# Altium integrated library Linear Technology Power Management Switching Regulator LTC1174-LTC3901.IntLib: 2647 symbols (part 119 of 364)
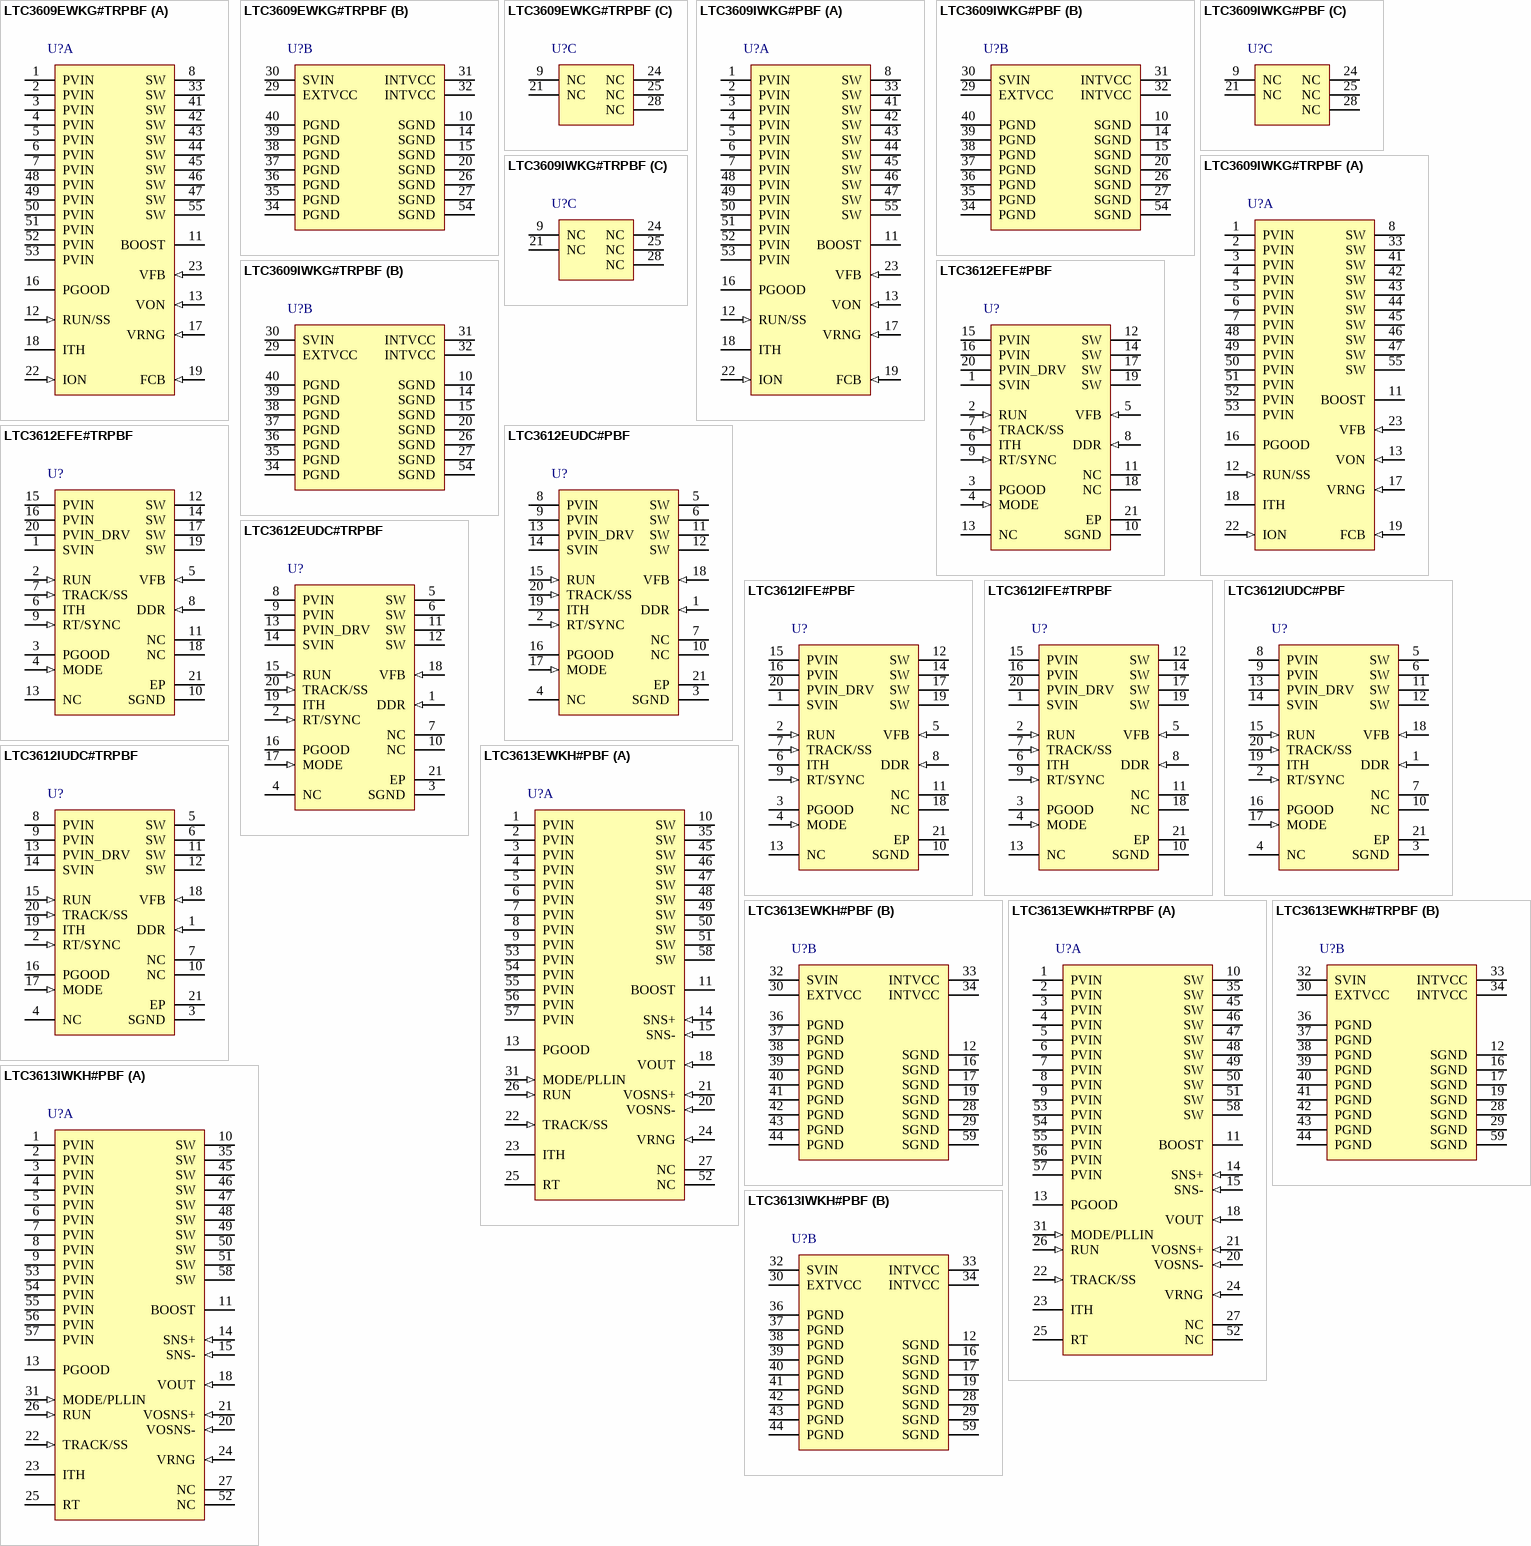
[diagram p176: symbols LTC3609EWKG#TRPBF to LTC3613IWKH#PBF]

## LTC3612EFE#PBF
designator U?
3 A, 4 MHz Monolithic Synchronous Step-Down DC/DC Converter, 20-pin SOP (FE-20-EPV-CB), -40 to 125 degC, Pb-Free; Manufacturer: Linear Technology; PartNumber: LTC3612EFE#PBF; Frequency Adjust Range: Up - 4MHz; Number of Outputs: 1; DatasheetVersion: Rev. A; PackageVersion: Rev. I, 05/2011; PackageReference: FE-20; PackageDescription: 20-Pin Plastic TSSOP, Body 6.5 x 4.4 mm, Pitch 0.65 mm; Supplier 1: Digi-Key; Supplier Part Number 1: LTC3612EFE#PBF-ND; Supplier 2: Farnell; Supplier Part Number 2: 2295101; Supplier 3: Newark; Supplier Part Number 3: 13T8364; RoHS: TRUE; Mounting Technology: Surface Mount; ComponentLink1Description: Manufacturer URL; ComponentLink1URL: http://www.linear.com/; ComponentLink2Description: Datasheet; ComponentLink2URL: http://cds.linear.com/docs/en/datasheet/3612fa.pdf; ComponentLink3Description: Package Specification; ComponentLink3URL: http://cds.linear.com/docs/en/packaging/05081663__J_FE20(CB).pdf
footprint LT-FE-20-EPV-CB_N (SOP, 20-Leads, Body 6.6x4.5mm, Pitch 0.65mm, Thermal Pad 3.86x2.74mm, IPC Medium Density)
footprint LT-FE-20-EPV-CB_L (SOP, 20-Leads, Body 6.6x4.5mm, Pitch 0.65mm, Thermal Pad 3.86x2.74mm, IPC High Density)
footprint LT-FE-20-EPV-CB_M (SOP, 20-Leads, Body 6.6x4.5mm, Pitch 0.65mm, Thermal Pad 3.86x2.74mm, IPC Low Density)
pins: 1 SVIN (power) "Signal Input Supply. This pin powers the internal control circuitry and is monitored by the undervoltage lockout comparator.", 2 RUN (in) "Enable Pin. Forcing this pin to ground shuts down the LTC3612. In shutdown, all functions are disabled and the chip draws <1uA of supply current.", 3 PGOOD (oc) "Power Good. This open-drain output is pulled down to SGND on start-up and while the FB voltage is outside the power good voltage window. If the FB voltage increases and stays inside the power good window for more than 105us (See Datasheet)", 4 MODE (in) "Mode Selection. Tying the MODE pin to SVIN or SGND enables pulse-skipping mode or Burst Mode operation (with an internal Burst Mode clamp), respectively. If this pin is held at slightly higher than half of SVIN, forced (See Datasheet)", 5 VFB (in) "Voltage Feedback Input Pin. Senses the feedback voltage from the external resistive divider across the output.", 6 ITH "Error Amplifier Compensation. The current comparator’s threshold increases with this control voltage. Tying this pin to SVIN enables internal compensation and AVP mode.", 7 TRACK/SS (in) "Track/External Soft-Start/External Reference. Start-up behavior is programmable with the TRACK/SS pin: 1. Tying this pin to SVIN selects the internal soft-start circuit. 2. External soft-start timing can be programmed with a (See Datasheet)", 8 DDR (in) "DDR Mode Pin. Tying the DDR pin to SVIN selects DDR mode and TRACK/SS can be used as an external reference input. If DDR is tied to SGND, the internal 0.6V reference will be used.", 9 RT/SYNC (in) "Oscillator Frequency. This pin provides three ways of setting the constant switching frequency: 1. Connecting a resistor from RT/SYNC to ground will set the switching frequency based on the resistor value. 2. Driving the (See Datasheet)", 10 SGND (power) "Signal Ground. All small-signal and compensation components should connect to this ground, which in turn should connect to PGND at a single point.", 11 NC "Can be connected to ground or left open.", 12 SW (power) "Switch Node. Connection to the inductor. This pin connects to the drains of the internal synchronous power MOSFET switches.", 13 NC "Can be connected to ground or left open.", 14 SW (power) "Switch Node. Connection to the inductor. This pin connects to the drains of the internal synchronous power MOSFET switches.", 15 PVIN (power) "Power Input Supply. PVIN connects to the source of the internal P-channel power MOSFET. This pin is independent of SVIN and may be connected to the same voltage or to a lower voltage supply.", 16 PVIN (power) "Power Input Supply. PVIN connects to the source of the internal P-channel power MOSFET. This pin is independent of SVIN and may be connected to the same voltage or to a lower voltage supply.", 17 SW (power) "Switch Node. Connection to the inductor. This pin connects to the drains of the internal synchronous power MOSFET switches.", 18 NC "Can be connected to ground or left open.", 19 SW (power) "Switch Node. Connection to the inductor. This pin connects to the drains of the internal synchronous power MOSFET switches.", 20 PVIN_DRV (power) "Internal Gate Driver Input Supply. This pin must be connected to PVIN.", 21 EP (power) "Power Ground. The exposed pad connects to the source of the internal N-channel power MOSFET. This pin should be connected close to the (-) terminal of CIN and COUT and soldered to PCB ground for rated thermal performance."

## LTC3612EFE#TRPBF
designator U?
3 A, 4 MHz Monolithic Synchronous Step-Down DC/DC Converter, 20-pin SOP (FE-20-EPV-CB), -40 to 125 degC, Pb-Free, Tape and Reel; Manufacturer: Linear Technology; PartNumber: LTC3612EFE#TRPBF; Frequency Adjust Range: Up - 4MHz; Number of Outputs: 1; DatasheetVersion: Rev. A; PackageVersion: Rev. I, 05/2011; PackageReference: FE-20; PackageDescription: 20-Pin Plastic TSSOP, Body 6.5 x 4.4 mm, Pitch 0.65 mm; Supplier 1: Digi-Key; Supplier Part Number 1: LTC3612EFE#TRPBF-ND; Packing: Tape and Reel; RoHS: TRUE; Mounting Technology: Surface Mount; ComponentLink1Description: Manufacturer URL; ComponentLink1URL: http://www.linear.com/; ComponentLink2Description: Datasheet; ComponentLink2URL: http://cds.linear.com/docs/en/datasheet/3612fa.pdf; ComponentLink3Description: Package Specification; ComponentLink3URL: http://cds.linear.com/docs/en/packaging/05081663__J_FE20(CB).pdf
footprint LT-FE-20-EPV-CB_N (SOP, 20-Leads, Body 6.6x4.5mm, Pitch 0.65mm, Thermal Pad 3.86x2.74mm, IPC Medium Density)
footprint LT-FE-20-EPV-CB_L (SOP, 20-Leads, Body 6.6x4.5mm, Pitch 0.65mm, Thermal Pad 3.86x2.74mm, IPC High Density)
footprint LT-FE-20-EPV-CB_M (SOP, 20-Leads, Body 6.6x4.5mm, Pitch 0.65mm, Thermal Pad 3.86x2.74mm, IPC Low Density)
pins: 1 SVIN (power) "Signal Input Supply. This pin powers the internal control circuitry and is monitored by the undervoltage lockout comparator.", 2 RUN (in) "Enable Pin. Forcing this pin to ground shuts down the LTC3612. In shutdown, all functions are disabled and the chip draws <1uA of supply current.", 3 PGOOD (oc) "Power Good. This open-drain output is pulled down to SGND on start-up and while the FB voltage is outside the power good voltage window. If the FB voltage increases and stays inside the power good window for more than 105us (See Datasheet)", 4 MODE (in) "Mode Selection. Tying the MODE pin to SVIN or SGND enables pulse-skipping mode or Burst Mode operation (with an internal Burst Mode clamp), respectively. If this pin is held at slightly higher than half of SVIN, forced (See Datasheet)", 5 VFB (in) "Voltage Feedback Input Pin. Senses the feedback voltage from the external resistive divider across the output.", 6 ITH "Error Amplifier Compensation. The current comparator’s threshold increases with this control voltage. Tying this pin to SVIN enables internal compensation and AVP mode.", 7 TRACK/SS (in) "Track/External Soft-Start/External Reference. Start-up behavior is programmable with the TRACK/SS pin: 1. Tying this pin to SVIN selects the internal soft-start circuit. 2. External soft-start timing can be programmed with a (See Datasheet)", 8 DDR (in) "DDR Mode Pin. Tying the DDR pin to SVIN selects DDR mode and TRACK/SS can be used as an external reference input. If DDR is tied to SGND, the internal 0.6V reference will be used.", 9 RT/SYNC (in) "Oscillator Frequency. This pin provides three ways of setting the constant switching frequency: 1. Connecting a resistor from RT/SYNC to ground will set the switching frequency based on the resistor value. 2. Driving the (See Datasheet)", 10 SGND (power) "Signal Ground. All small-signal and compensation components should connect to this ground, which in turn should connect to PGND at a single point.", 11 NC "Can be connected to ground or left open.", 12 SW (power) "Switch Node. Connection to the inductor. This pin connects to the drains of the internal synchronous power MOSFET switches.", 13 NC "Can be connected to ground or left open.", 14 SW (power) "Switch Node. Connection to the inductor. This pin connects to the drains of the internal synchronous power MOSFET switches.", 15 PVIN (power) "Power Input Supply. PVIN connects to the source of the internal P-channel power MOSFET. This pin is independent of SVIN and may be connected to the same voltage or to a lower voltage supply.", 16 PVIN (power) "Power Input Supply. PVIN connects to the source of the internal P-channel power MOSFET. This pin is independent of SVIN and may be connected to the same voltage or to a lower voltage supply.", 17 SW (power) "Switch Node. Connection to the inductor. This pin connects to the drains of the internal synchronous power MOSFET switches.", 18 NC "Can be connected to ground or left open.", 19 SW (power) "Switch Node. Connection to the inductor. This pin connects to the drains of the internal synchronous power MOSFET switches.", 20 PVIN_DRV (power) "Internal Gate Driver Input Supply. This pin must be connected to PVIN.", 21 EP (power) "Power Ground. The exposed pad connects to the source of the internal N-channel power MOSFET. This pin should be connected close to the (-) terminal of CIN and COUT and soldered to PCB ground for rated thermal performance."

## LTC3612EUDC#PBF
designator U?
3 A, 4 MHz Monolithic Synchronous Step-Down DC/DC Converter, 20-pin QFN (UDC-20), -40 to 125 degC, Pb-Free; Manufacturer: Linear Technology; PartNumber: LTC3612EUDC#PBF; Frequency Adjust Range: Up - 4MHz; Number of Outputs: 1; DatasheetVersion: Rev. A; PackageVersion: Rev. Ø, 06/2010; PackageReference: UDC20; PackageDescription: 20-Pin Plastic QFN, Body 3 x 4 mm, Pitch 0.5 mm; Supplier 1: Digi-Key; Supplier Part Number 1: LTC3612EUDC#PBF-ND; Supplier 2: Newark; Supplier Part Number 2: 13T8366; RoHS: TRUE; Mounting Technology: Surface Mount; ComponentLink1Description: Manufacturer URL; ComponentLink1URL: http://www.linear.com/; ComponentLink2Description: Datasheet; ComponentLink2URL: http://cds.linear.com/docs/en/datasheet/3612fa.pdf; ComponentLink3Description: Package Specification; ComponentLink3URL: http://cds.linear.com/docs/en/packaging/QFN_20_05-08-1742.pdf
footprint LT-UDC-20_N (QFN, 20-Leads, Body 4.1x3.1mm, Pitch 0.5mm, Thermal Pad 2.65x1.65mm, IPC Medium Density)
footprint LT-UDC-20_L (QFN, 20-Leads, Body 4.1x3.1mm, Pitch 0.5mm, Thermal Pad 2.65x1.65mm, IPC High Density)
footprint LT-UDC-20_M (QFN, 20-Leads, Body 4.1x3.1mm, Pitch 0.5mm, Thermal Pad 2.65x1.65mm, IPC Low Density)
pins: 1 DDR (in) "DDR Mode Pin. Tying the DDR pin to SVIN selects DDR mode and TRACK/SS can be used as an external reference input. If DDR is tied to SGND, the internal 0.6V reference will be used.", 2 RT/SYNC (in) "Oscillator Frequency. This pin provides three ways of setting the constant switching frequency: 1. Connecting a resistor from RT/SYNC to ground will set the switching frequency based on the resistor value. 2. Driving the (See Datasheet)", 3 SGND (power) "Signal Ground. All small-signal and compensation components should connect to this ground, which in turn should connect to PGND at a single point.", 4 NC "Can be connected to ground or left open.", 5 SW (power) "Switch Node. Connection to the inductor. This pin connects to the drains of the internal synchronous power MOSFET switches.", 6 SW (power) "Switch Node. Connection to the inductor. This pin connects to the drains of the internal synchronous power MOSFET switches.", 7 NC "Can be connected to ground or left open.", 8 PVIN (power) "Power Input Supply. PVIN connects to the source of the internal P-channel power MOSFET. This pin is independent of SVIN and may be connected to the same voltage or to a lower voltage supply.", 9 PVIN (power) "Power Input Supply. PVIN connects to the source of the internal P-channel power MOSFET. This pin is independent of SVIN and may be connected to the same voltage or to a lower voltage supply.", 10 NC "Can be connected to ground or left open.", 11 SW (power) "Switch Node. Connection to the inductor. This pin connects to the drains of the internal synchronous power MOSFET switches.", 12 SW (power) "Switch Node. Connection to the inductor. This pin connects to the drains of the internal synchronous power MOSFET switches.", 13 PVIN_DRV (power) "Internal Gate Driver Input Supply. This pin must be connected to PVIN.", 14 SVIN (power) "Signal Input Supply. This pin powers the internal control circuitry and is monitored by the undervoltage lockout comparator.", 15 RUN (in) "Enable Pin. Forcing this pin to ground shuts down the LTC3612. In shutdown, all functions are disabled and the chip draws <1uA of supply current.", 16 PGOOD (oc) "Power Good. This open-drain output is pulled down to SGND on start-up and while the FB voltage is outside the power good voltage window. If the FB voltage increases and stays inside the power good window for more than 105us (See Datasheet)", 17 MODE (in) "Mode Selection. Tying the MODE pin to SVIN or SGND enables pulse-skipping mode or Burst Mode operation (with an internal Burst Mode clamp), respectively. If this pin is held at slightly higher than half of SVIN, forced (See Datasheet)", 18 VFB (in) "Voltage Feedback Input Pin. Senses the feedback voltage from the external resistive divider across the output.", 19 ITH "Error Amplifier Compensation. The current comparator’s threshold increases with this control voltage. Tying this pin to SVIN enables internal compensation and AVP mode.", 20 TRACK/SS (in) "Track/External Soft-Start/External Reference. Start-up behavior is programmable with the TRACK/SS pin: 1. Tying this pin to SVIN selects the internal soft-start circuit. 2. External soft-start timing can be programmed with a (See Datasheet)", 21 EP (power) "Power Ground. The exposed pad connects to the source of the internal N-channel power MOSFET. This pin should be connected close to the (-) terminal of CIN and COUT and soldered to PCB ground for rated thermal performance."

## LTC3612EUDC#TRPBF
designator U?
3 A, 4 MHz Monolithic Synchronous Step-Down DC/DC Converter, 20-pin QFN (UDC-20), -40 to 125 degC, Pb-Free, Tape and Reel; Manufacturer: Linear Technology; PartNumber: LTC3612EUDC#TRPBF; Frequency Adjust Range: Up - 4MHz; Number of Outputs: 1; DatasheetVersion: Rev. A; PackageVersion: Rev. Ø, 06/2010; PackageReference: UDC20; PackageDescription: 20-Pin Plastic QFN, Body 3 x 4 mm, Pitch 0.5 mm; Supplier 1: Digi-Key; Supplier Part Number 1: LTC3612EUDC#TRPBF-ND; Supplier 2: Newark; Supplier Part Number 2: 13T8367; Packing: Tape and Reel; RoHS: TRUE; Mounting Technology: Surface Mount; ComponentLink1Description: Manufacturer URL; ComponentLink1URL: http://www.linear.com/; ComponentLink2Description: Datasheet; ComponentLink2URL: http://cds.linear.com/docs/en/datasheet/3612fa.pdf; ComponentLink3Description: Package Specification; ComponentLink3URL: http://cds.linear.com/docs/en/packaging/QFN_20_05-08-1742.pdf
footprint LT-UDC-20_N (QFN, 20-Leads, Body 4.1x3.1mm, Pitch 0.5mm, Thermal Pad 2.65x1.65mm, IPC Medium Density)
footprint LT-UDC-20_L (QFN, 20-Leads, Body 4.1x3.1mm, Pitch 0.5mm, Thermal Pad 2.65x1.65mm, IPC High Density)
footprint LT-UDC-20_M (QFN, 20-Leads, Body 4.1x3.1mm, Pitch 0.5mm, Thermal Pad 2.65x1.65mm, IPC Low Density)
pins: 1 DDR (in) "DDR Mode Pin. Tying the DDR pin to SVIN selects DDR mode and TRACK/SS can be used as an external reference input. If DDR is tied to SGND, the internal 0.6V reference will be used.", 2 RT/SYNC (in) "Oscillator Frequency. This pin provides three ways of setting the constant switching frequency: 1. Connecting a resistor from RT/SYNC to ground will set the switching frequency based on the resistor value. 2. Driving the (See Datasheet)", 3 SGND (power) "Signal Ground. All small-signal and compensation components should connect to this ground, which in turn should connect to PGND at a single point.", 4 NC "Can be connected to ground or left open.", 5 SW (power) "Switch Node. Connection to the inductor. This pin connects to the drains of the internal synchronous power MOSFET switches.", 6 SW (power) "Switch Node. Connection to the inductor. This pin connects to the drains of the internal synchronous power MOSFET switches.", 7 NC "Can be connected to ground or left open.", 8 PVIN (power) "Power Input Supply. PVIN connects to the source of the internal P-channel power MOSFET. This pin is independent of SVIN and may be connected to the same voltage or to a lower voltage supply.", 9 PVIN (power) "Power Input Supply. PVIN connects to the source of the internal P-channel power MOSFET. This pin is independent of SVIN and may be connected to the same voltage or to a lower voltage supply.", 10 NC "Can be connected to ground or left open.", 11 SW (power) "Switch Node. Connection to the inductor. This pin connects to the drains of the internal synchronous power MOSFET switches.", 12 SW (power) "Switch Node. Connection to the inductor. This pin connects to the drains of the internal synchronous power MOSFET switches.", 13 PVIN_DRV (power) "Internal Gate Driver Input Supply. This pin must be connected to PVIN.", 14 SVIN (power) "Signal Input Supply. This pin powers the internal control circuitry and is monitored by the undervoltage lockout comparator.", 15 RUN (in) "Enable Pin. Forcing this pin to ground shuts down the LTC3612. In shutdown, all functions are disabled and the chip draws <1uA of supply current.", 16 PGOOD (oc) "Power Good. This open-drain output is pulled down to SGND on start-up and while the FB voltage is outside the power good voltage window. If the FB voltage increases and stays inside the power good window for more than 105us (See Datasheet)", 17 MODE (in) "Mode Selection. Tying the MODE pin to SVIN or SGND enables pulse-skipping mode or Burst Mode operation (with an internal Burst Mode clamp), respectively. If this pin is held at slightly higher than half of SVIN, forced (See Datasheet)", 18 VFB (in) "Voltage Feedback Input Pin. Senses the feedback voltage from the external resistive divider across the output.", 19 ITH "Error Amplifier Compensation. The current comparator’s threshold increases with this control voltage. Tying this pin to SVIN enables internal compensation and AVP mode.", 20 TRACK/SS (in) "Track/External Soft-Start/External Reference. Start-up behavior is programmable with the TRACK/SS pin: 1. Tying this pin to SVIN selects the internal soft-start circuit. 2. External soft-start timing can be programmed with a (See Datasheet)", 21 EP (power) "Power Ground. The exposed pad connects to the source of the internal N-channel power MOSFET. This pin should be connected close to the (-) terminal of CIN and COUT and soldered to PCB ground for rated thermal performance."

## LTC3612IFE#PBF
designator U?
3 A, 4 MHz Monolithic Synchronous Step-Down DC/DC Converter, 20-pin SOP (FE-20-EPV-CB), -40 to 125 degC, Pb-Free; Manufacturer: Linear Technology; PartNumber: LTC3612IFE#PBF; Frequency Adjust Range: Up - 4MHz; Number of Outputs: 1; DatasheetVersion: Rev. A; PackageVersion: Rev. I, 05/2011; PackageReference: FE-20; PackageDescription: 20-Pin Plastic TSSOP, Body 6.5 x 4.4 mm, Pitch 0.65 mm; Supplier 1: Digi-Key; Supplier Part Number 1: LTC3612IFE#PBF-ND; Supplier 2: Farnell; Supplier Part Number 2: 2295102; Supplier 3: Newark; Supplier Part Number 3: 13T8368; RoHS: TRUE; Mounting Technology: Surface Mount; ComponentLink1Description: Manufacturer URL; ComponentLink1URL: http://www.linear.com/; ComponentLink2Description: Datasheet; ComponentLink2URL: http://cds.linear.com/docs/en/datasheet/3612fa.pdf; ComponentLink3Description: Package Specification; ComponentLink3URL: http://cds.linear.com/docs/en/packaging/05081663__J_FE20(CB).pdf
footprint LT-FE-20-EPV-CB_N (SOP, 20-Leads, Body 6.6x4.5mm, Pitch 0.65mm, Thermal Pad 3.86x2.74mm, IPC Medium Density)
footprint LT-FE-20-EPV-CB_L (SOP, 20-Leads, Body 6.6x4.5mm, Pitch 0.65mm, Thermal Pad 3.86x2.74mm, IPC High Density)
footprint LT-FE-20-EPV-CB_M (SOP, 20-Leads, Body 6.6x4.5mm, Pitch 0.65mm, Thermal Pad 3.86x2.74mm, IPC Low Density)
pins: 1 SVIN (power) "Signal Input Supply. This pin powers the internal control circuitry and is monitored by the undervoltage lockout comparator.", 2 RUN (in) "Enable Pin. Forcing this pin to ground shuts down the LTC3612. In shutdown, all functions are disabled and the chip draws <1uA of supply current.", 3 PGOOD (oc) "Power Good. This open-drain output is pulled down to SGND on start-up and while the FB voltage is outside the power good voltage window. If the FB voltage increases and stays inside the power good window for more than 105us (See Datasheet)", 4 MODE (in) "Mode Selection. Tying the MODE pin to SVIN or SGND enables pulse-skipping mode or Burst Mode operation (with an internal Burst Mode clamp), respectively. If this pin is held at slightly higher than half of SVIN, forced (See Datasheet)", 5 VFB (in) "Voltage Feedback Input Pin. Senses the feedback voltage from the external resistive divider across the output.", 6 ITH "Error Amplifier Compensation. The current comparator’s threshold increases with this control voltage. Tying this pin to SVIN enables internal compensation and AVP mode.", 7 TRACK/SS (in) "Track/External Soft-Start/External Reference. Start-up behavior is programmable with the TRACK/SS pin: 1. Tying this pin to SVIN selects the internal soft-start circuit. 2. External soft-start timing can be programmed with a (See Datasheet)", 8 DDR (in) "DDR Mode Pin. Tying the DDR pin to SVIN selects DDR mode and TRACK/SS can be used as an external reference input. If DDR is tied to SGND, the internal 0.6V reference will be used.", 9 RT/SYNC (in) "Oscillator Frequency. This pin provides three ways of setting the constant switching frequency: 1. Connecting a resistor from RT/SYNC to ground will set the switching frequency based on the resistor value. 2. Driving the (See Datasheet)", 10 SGND (power) "Signal Ground. All small-signal and compensation components should connect to this ground, which in turn should connect to PGND at a single point.", 11 NC "Can be connected to ground or left open.", 12 SW (power) "Switch Node. Connection to the inductor. This pin connects to the drains of the internal synchronous power MOSFET switches.", 13 NC "Can be connected to ground or left open.", 14 SW (power) "Switch Node. Connection to the inductor. This pin connects to the drains of the internal synchronous power MOSFET switches.", 15 PVIN (power) "Power Input Supply. PVIN connects to the source of the internal P-channel power MOSFET. This pin is independent of SVIN and may be connected to the same voltage or to a lower voltage supply.", 16 PVIN (power) "Power Input Supply. PVIN connects to the source of the internal P-channel power MOSFET. This pin is independent of SVIN and may be connected to the same voltage or to a lower voltage supply.", 17 SW (power) "Switch Node. Connection to the inductor. This pin connects to the drains of the internal synchronous power MOSFET switches.", 18 NC "Can be connected to ground or left open.", 19 SW (power) "Switch Node. Connection to the inductor. This pin connects to the drains of the internal synchronous power MOSFET switches.", 20 PVIN_DRV (power) "Internal Gate Driver Input Supply. This pin must be connected to PVIN.", 21 EP (power) "Power Ground. The exposed pad connects to the source of the internal N-channel power MOSFET. This pin should be connected close to the (-) terminal of CIN and COUT and soldered to PCB ground for rated thermal performance."

## LTC3612IFE#TRPBF
designator U?
3 A, 4 MHz Monolithic Synchronous Step-Down DC/DC Converter, 20-pin SOP (FE-20-EPV-CB), -40 to 125 degC, Pb-Free, Tape and Reel; Manufacturer: Linear Technology; PartNumber: LTC3612IFE#TRPBF; Frequency Adjust Range: Up - 4MHz; Number of Outputs: 1; DatasheetVersion: Rev. A; PackageVersion: Rev. I, 05/2011; PackageReference: FE-20; PackageDescription: 20-Pin Plastic TSSOP, Body 6.5 x 4.4 mm, Pitch 0.65 mm; Supplier 1: Digi-Key; Supplier Part Number 1: LTC3612IFE#TRPBF-ND; Packing: Tape and Reel; RoHS: TRUE; Mounting Technology: Surface Mount; ComponentLink1Description: Manufacturer URL; ComponentLink1URL: http://www.linear.com/; ComponentLink2Description: Datasheet; ComponentLink2URL: http://cds.linear.com/docs/en/datasheet/3612fa.pdf; ComponentLink3Description: Package Specification; ComponentLink3URL: http://cds.linear.com/docs/en/packaging/05081663__J_FE20(CB).pdf
footprint LT-FE-20-EPV-CB_N (SOP, 20-Leads, Body 6.6x4.5mm, Pitch 0.65mm, Thermal Pad 3.86x2.74mm, IPC Medium Density)
footprint LT-FE-20-EPV-CB_L (SOP, 20-Leads, Body 6.6x4.5mm, Pitch 0.65mm, Thermal Pad 3.86x2.74mm, IPC High Density)
footprint LT-FE-20-EPV-CB_M (SOP, 20-Leads, Body 6.6x4.5mm, Pitch 0.65mm, Thermal Pad 3.86x2.74mm, IPC Low Density)
pins: 1 SVIN (power) "Signal Input Supply. This pin powers the internal control circuitry and is monitored by the undervoltage lockout comparator.", 2 RUN (in) "Enable Pin. Forcing this pin to ground shuts down the LTC3612. In shutdown, all functions are disabled and the chip draws <1uA of supply current.", 3 PGOOD (oc) "Power Good. This open-drain output is pulled down to SGND on start-up and while the FB voltage is outside the power good voltage window. If the FB voltage increases and stays inside the power good window for more than 105us (See Datasheet)", 4 MODE (in) "Mode Selection. Tying the MODE pin to SVIN or SGND enables pulse-skipping mode or Burst Mode operation (with an internal Burst Mode clamp), respectively. If this pin is held at slightly higher than half of SVIN, forced (See Datasheet)", 5 VFB (in) "Voltage Feedback Input Pin. Senses the feedback voltage from the external resistive divider across the output.", 6 ITH "Error Amplifier Compensation. The current comparator’s threshold increases with this control voltage. Tying this pin to SVIN enables internal compensation and AVP mode.", 7 TRACK/SS (in) "Track/External Soft-Start/External Reference. Start-up behavior is programmable with the TRACK/SS pin: 1. Tying this pin to SVIN selects the internal soft-start circuit. 2. External soft-start timing can be programmed with a (See Datasheet)", 8 DDR (in) "DDR Mode Pin. Tying the DDR pin to SVIN selects DDR mode and TRACK/SS can be used as an external reference input. If DDR is tied to SGND, the internal 0.6V reference will be used.", 9 RT/SYNC (in) "Oscillator Frequency. This pin provides three ways of setting the constant switching frequency: 1. Connecting a resistor from RT/SYNC to ground will set the switching frequency based on the resistor value. 2. Driving the (See Datasheet)", 10 SGND (power) "Signal Ground. All small-signal and compensation components should connect to this ground, which in turn should connect to PGND at a single point.", 11 NC "Can be connected to ground or left open.", 12 SW (power) "Switch Node. Connection to the inductor. This pin connects to the drains of the internal synchronous power MOSFET switches.", 13 NC "Can be connected to ground or left open.", 14 SW (power) "Switch Node. Connection to the inductor. This pin connects to the drains of the internal synchronous power MOSFET switches.", 15 PVIN (power) "Power Input Supply. PVIN connects to the source of the internal P-channel power MOSFET. This pin is independent of SVIN and may be connected to the same voltage or to a lower voltage supply.", 16 PVIN (power) "Power Input Supply. PVIN connects to the source of the internal P-channel power MOSFET. This pin is independent of SVIN and may be connected to the same voltage or to a lower voltage supply.", 17 SW (power) "Switch Node. Connection to the inductor. This pin connects to the drains of the internal synchronous power MOSFET switches.", 18 NC "Can be connected to ground or left open.", 19 SW (power) "Switch Node. Connection to the inductor. This pin connects to the drains of the internal synchronous power MOSFET switches.", 20 PVIN_DRV (power) "Internal Gate Driver Input Supply. This pin must be connected to PVIN.", 21 EP (power) "Power Ground. The exposed pad connects to the source of the internal N-channel power MOSFET. This pin should be connected close to the (-) terminal of CIN and COUT and soldered to PCB ground for rated thermal performance."

## LTC3612IUDC#PBF
designator U?
3 A, 4 MHz Monolithic Synchronous Step-Down DC/DC Converter, 20-pin QFN (UDC-20), -40 to 125 degC, Pb-Free; Manufacturer: Linear Technology; PartNumber: LTC3612IUDC#PBF; Frequency Adjust Range: Up - 4MHz; Number of Outputs: 1; DatasheetVersion: Rev. A; PackageVersion: Rev. Ø, 06/2010; PackageReference: UDC20; PackageDescription: 20-Pin Plastic QFN, Body 3 x 4 mm, Pitch 0.5 mm; Supplier 1: Digi-Key; Supplier Part Number 1: LTC3612IUDC#PBF-ND; Supplier 2: Newark; Supplier Part Number 2: 13T8370; RoHS: TRUE; Mounting Technology: Surface Mount; ComponentLink1Description: Manufacturer URL; ComponentLink1URL: http://www.linear.com/; ComponentLink2Description: Datasheet; ComponentLink2URL: http://cds.linear.com/docs/en/datasheet/3612fa.pdf; ComponentLink3Description: Package Specification; ComponentLink3URL: http://cds.linear.com/docs/en/packaging/QFN_20_05-08-1742.pdf
footprint LT-UDC-20_N (QFN, 20-Leads, Body 4.1x3.1mm, Pitch 0.5mm, Thermal Pad 2.65x1.65mm, IPC Medium Density)
footprint LT-UDC-20_L (QFN, 20-Leads, Body 4.1x3.1mm, Pitch 0.5mm, Thermal Pad 2.65x1.65mm, IPC High Density)
footprint LT-UDC-20_M (QFN, 20-Leads, Body 4.1x3.1mm, Pitch 0.5mm, Thermal Pad 2.65x1.65mm, IPC Low Density)
pins: 1 DDR (in) "DDR Mode Pin. Tying the DDR pin to SVIN selects DDR mode and TRACK/SS can be used as an external reference input. If DDR is tied to SGND, the internal 0.6V reference will be used.", 2 RT/SYNC (in) "Oscillator Frequency. This pin provides three ways of setting the constant switching frequency: 1. Connecting a resistor from RT/SYNC to ground will set the switching frequency based on the resistor value. 2. Driving the (See Datasheet)", 3 SGND (power) "Signal Ground. All small-signal and compensation components should connect to this ground, which in turn should connect to PGND at a single point.", 4 NC "Can be connected to ground or left open.", 5 SW (power) "Switch Node. Connection to the inductor. This pin connects to the drains of the internal synchronous power MOSFET switches.", 6 SW (power) "Switch Node. Connection to the inductor. This pin connects to the drains of the internal synchronous power MOSFET switches.", 7 NC "Can be connected to ground or left open.", 8 PVIN (power) "Power Input Supply. PVIN connects to the source of the internal P-channel power MOSFET. This pin is independent of SVIN and may be connected to the same voltage or to a lower voltage supply.", 9 PVIN (power) "Power Input Supply. PVIN connects to the source of the internal P-channel power MOSFET. This pin is independent of SVIN and may be connected to the same voltage or to a lower voltage supply.", 10 NC "Can be connected to ground or left open.", 11 SW (power) "Switch Node. Connection to the inductor. This pin connects to the drains of the internal synchronous power MOSFET switches.", 12 SW (power) "Switch Node. Connection to the inductor. This pin connects to the drains of the internal synchronous power MOSFET switches.", 13 PVIN_DRV (power) "Internal Gate Driver Input Supply. This pin must be connected to PVIN.", 14 SVIN (power) "Signal Input Supply. This pin powers the internal control circuitry and is monitored by the undervoltage lockout comparator.", 15 RUN (in) "Enable Pin. Forcing this pin to ground shuts down the LTC3612. In shutdown, all functions are disabled and the chip draws <1uA of supply current.", 16 PGOOD (oc) "Power Good. This open-drain output is pulled down to SGND on start-up and while the FB voltage is outside the power good voltage window. If the FB voltage increases and stays inside the power good window for more than 105us (See Datasheet)", 17 MODE (in) "Mode Selection. Tying the MODE pin to SVIN or SGND enables pulse-skipping mode or Burst Mode operation (with an internal Burst Mode clamp), respectively. If this pin is held at slightly higher than half of SVIN, forced (See Datasheet)", 18 VFB (in) "Voltage Feedback Input Pin. Senses the feedback voltage from the external resistive divider across the output.", 19 ITH "Error Amplifier Compensation. The current comparator’s threshold increases with this control voltage. Tying this pin to SVIN enables internal compensation and AVP mode.", 20 TRACK/SS (in) "Track/External Soft-Start/External Reference. Start-up behavior is programmable with the TRACK/SS pin: 1. Tying this pin to SVIN selects the internal soft-start circuit. 2. External soft-start timing can be programmed with a (See Datasheet)", 21 EP (power) "Power Ground. The exposed pad connects to the source of the internal N-channel power MOSFET. This pin should be connected close to the (-) terminal of CIN and COUT and soldered to PCB ground for rated thermal performance."

## LTC3612IUDC#TRPBF
designator U?
3 A, 4 MHz Monolithic Synchronous Step-Down DC/DC Converter, 20-pin QFN (UDC-20), -40 to 125 degC, Pb-Free, Tape and Reel; Manufacturer: Linear Technology; PartNumber: LTC3612IUDC#TRPBF; Frequency Adjust Range: Up - 4MHz; Number of Outputs: 1; DatasheetVersion: Rev. A; PackageVersion: Rev. Ø, 06/2010; PackageReference: UDC20; PackageDescription: 20-Pin Plastic QFN, Body 3 x 4 mm, Pitch 0.5 mm; Supplier 1: Digi-Key; Supplier Part Number 1: LTC3612IUDC#TRPBF-ND; Supplier 2: Newark; Supplier Part Number 2: 13T8371; Packing: Tape and Reel; RoHS: TRUE; Mounting Technology: Surface Mount; ComponentLink1Description: Manufacturer URL; ComponentLink1URL: http://www.linear.com/; ComponentLink2Description: Datasheet; ComponentLink2URL: http://cds.linear.com/docs/en/datasheet/3612fa.pdf; ComponentLink3Description: Package Specification; ComponentLink3URL: http://cds.linear.com/docs/en/packaging/QFN_20_05-08-1742.pdf
footprint LT-UDC-20_N (QFN, 20-Leads, Body 4.1x3.1mm, Pitch 0.5mm, Thermal Pad 2.65x1.65mm, IPC Medium Density)
footprint LT-UDC-20_L (QFN, 20-Leads, Body 4.1x3.1mm, Pitch 0.5mm, Thermal Pad 2.65x1.65mm, IPC High Density)
footprint LT-UDC-20_M (QFN, 20-Leads, Body 4.1x3.1mm, Pitch 0.5mm, Thermal Pad 2.65x1.65mm, IPC Low Density)
pins: 1 DDR (in) "DDR Mode Pin. Tying the DDR pin to SVIN selects DDR mode and TRACK/SS can be used as an external reference input. If DDR is tied to SGND, the internal 0.6V reference will be used.", 2 RT/SYNC (in) "Oscillator Frequency. This pin provides three ways of setting the constant switching frequency: 1. Connecting a resistor from RT/SYNC to ground will set the switching frequency based on the resistor value. 2. Driving the (See Datasheet)", 3 SGND (power) "Signal Ground. All small-signal and compensation components should connect to this ground, which in turn should connect to PGND at a single point.", 4 NC "Can be connected to ground or left open.", 5 SW (power) "Switch Node. Connection to the inductor. This pin connects to the drains of the internal synchronous power MOSFET switches.", 6 SW (power) "Switch Node. Connection to the inductor. This pin connects to the drains of the internal synchronous power MOSFET switches.", 7 NC "Can be connected to ground or left open.", 8 PVIN (power) "Power Input Supply. PVIN connects to the source of the internal P-channel power MOSFET. This pin is independent of SVIN and may be connected to the same voltage or to a lower voltage supply.", 9 PVIN (power) "Power Input Supply. PVIN connects to the source of the internal P-channel power MOSFET. This pin is independent of SVIN and may be connected to the same voltage or to a lower voltage supply.", 10 NC "Can be connected to ground or left open.", 11 SW (power) "Switch Node. Connection to the inductor. This pin connects to the drains of the internal synchronous power MOSFET switches.", 12 SW (power) "Switch Node. Connection to the inductor. This pin connects to the drains of the internal synchronous power MOSFET switches.", 13 PVIN_DRV (power) "Internal Gate Driver Input Supply. This pin must be connected to PVIN.", 14 SVIN (power) "Signal Input Supply. This pin powers the internal control circuitry and is monitored by the undervoltage lockout comparator.", 15 RUN (in) "Enable Pin. Forcing this pin to ground shuts down the LTC3612. In shutdown, all functions are disabled and the chip draws <1uA of supply current.", 16 PGOOD (oc) "Power Good. This open-drain output is pulled down to SGND on start-up and while the FB voltage is outside the power good voltage window. If the FB voltage increases and stays inside the power good window for more than 105us (See Datasheet)", 17 MODE (in) "Mode Selection. Tying the MODE pin to SVIN or SGND enables pulse-skipping mode or Burst Mode operation (with an internal Burst Mode clamp), respectively. If this pin is held at slightly higher than half of SVIN, forced (See Datasheet)", 18 VFB (in) "Voltage Feedback Input Pin. Senses the feedback voltage from the external resistive divider across the output.", 19 ITH "Error Amplifier Compensation. The current comparator’s threshold increases with this control voltage. Tying this pin to SVIN enables internal compensation and AVP mode.", 20 TRACK/SS (in) "Track/External Soft-Start/External Reference. Start-up behavior is programmable with the TRACK/SS pin: 1. Tying this pin to SVIN selects the internal soft-start circuit. 2. External soft-start timing can be programmed with a (See Datasheet)", 21 EP (power) "Power Ground. The exposed pad connects to the source of the internal N-channel power MOSFET. This pin should be connected close to the (-) terminal of CIN and COUT and soldered to PCB ground for rated thermal performance."